# Altium footprint library WP914CK_4GDT.PcbLib: 1 footprints
Each footprint in its own frame and in the unit in brackets; x right, y up, seen from the top. Pads: shape width x height; smd on the part's side, far side on the other; paste and mask are expansions set on the pad; w line width, h text height; cw(c..) or ccw(c..) is an arc to the next point about the centre after c.
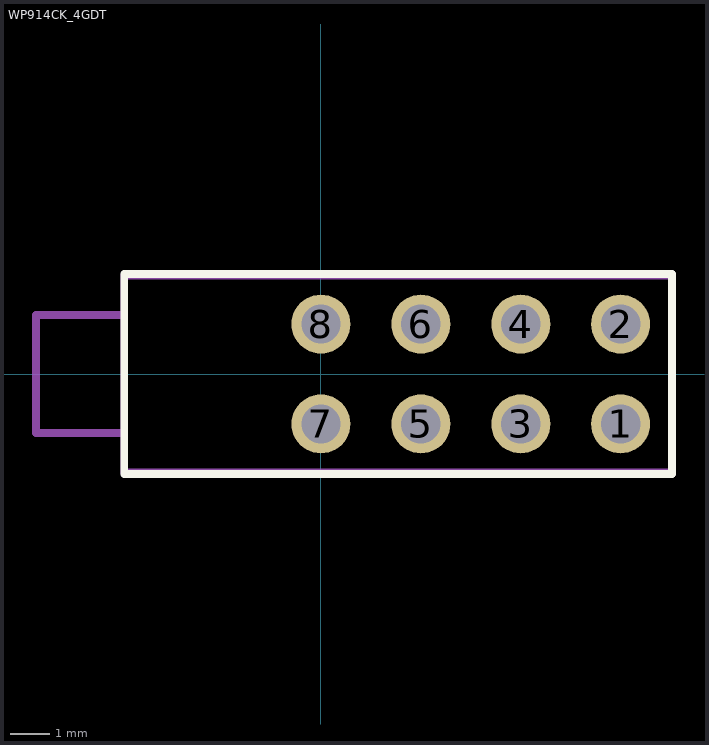
[diagram p0: the footprint, top view; thin cyan lines are the x and y axes]

## WP914CK_4GDT [mm]
pads (8):
  round 1.5 hole 1: 1(7.62,-1.27) 2(7.62,1.27) 3(5.08,-1.27) 4(5.08,1.27) 5(2.54,-1.27) 6(2.54,1.27) 7(0,-1.27) 8(0,1.27)
Top Overlay:
  lines w0.2: -5,-2.54 -5,2.54 8.928,2.54 8.928,-2.54 -5,-2.54
TopAssy:
  lines w0.2: -5,-1.5 -7.25,-1.5 -7.25,1.5 -5,1.5 ; -5,-2.5 -5,0 -5,2.5 8.93,2.5 8.93,-2.5 -5,-2.5
3D body "User Library-WP914CK_4GDT_LED_4x1_stack_2x3mm.STEP": height 12.09, standoff -2.9, extent -7.285,-2.535 8.92,2.545